# EAGLE library part TDA7052 (library Audio-Power-amplifier)
1 W BTL mono audio amplifier Source : www.datasheetcatalog.org/datasheet/philips/TDA7052_CNV_2.pdf
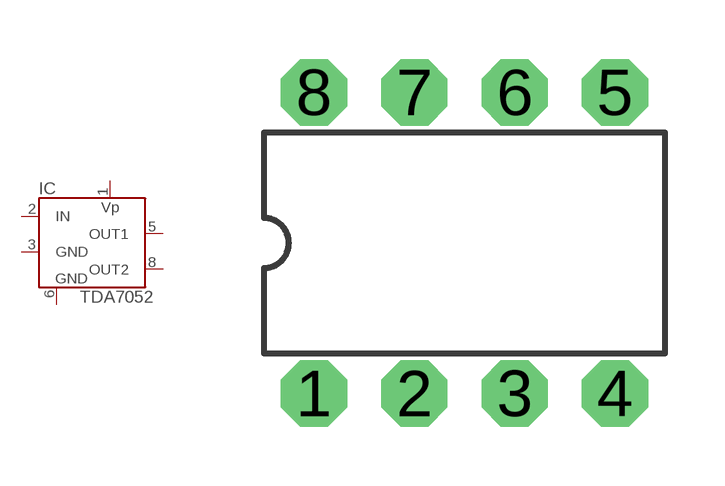
[diagram p27: symbol with the pads of DIL08; footprint DIL08]

Designator prefix IC

## TDA7052  [DIL08]
1  VP  sup
2  IN  in
3  GND  sup
5  OUT1  out
6  GND  sup
8  OUT2  out

## Footprint DIL08 (pad centres in mm)
Dual In Line
drill 0.6 pad 1.676 octagon: 1 -3.81,-3.81; 2 -1.27,-3.81; 3 1.27,-3.81; 4 3.81,-3.81; 5 3.81,3.81; 6 1.27,3.81; 7 -1.27,3.81; 8 -3.81,3.81